# Altium footprint library 12-Filters FB.PcbLib: 64 footprints (part 1 of 4)
Each footprint in its own frame and in the unit in brackets; x right, y up, seen from the top. Pads: shape width x height; smd on the part's side, far side on the other; paste and mask are expansions set on the pad; w line width, h text height; cw(c..) or ccw(c..) is an arc to the next point about the centre after c.
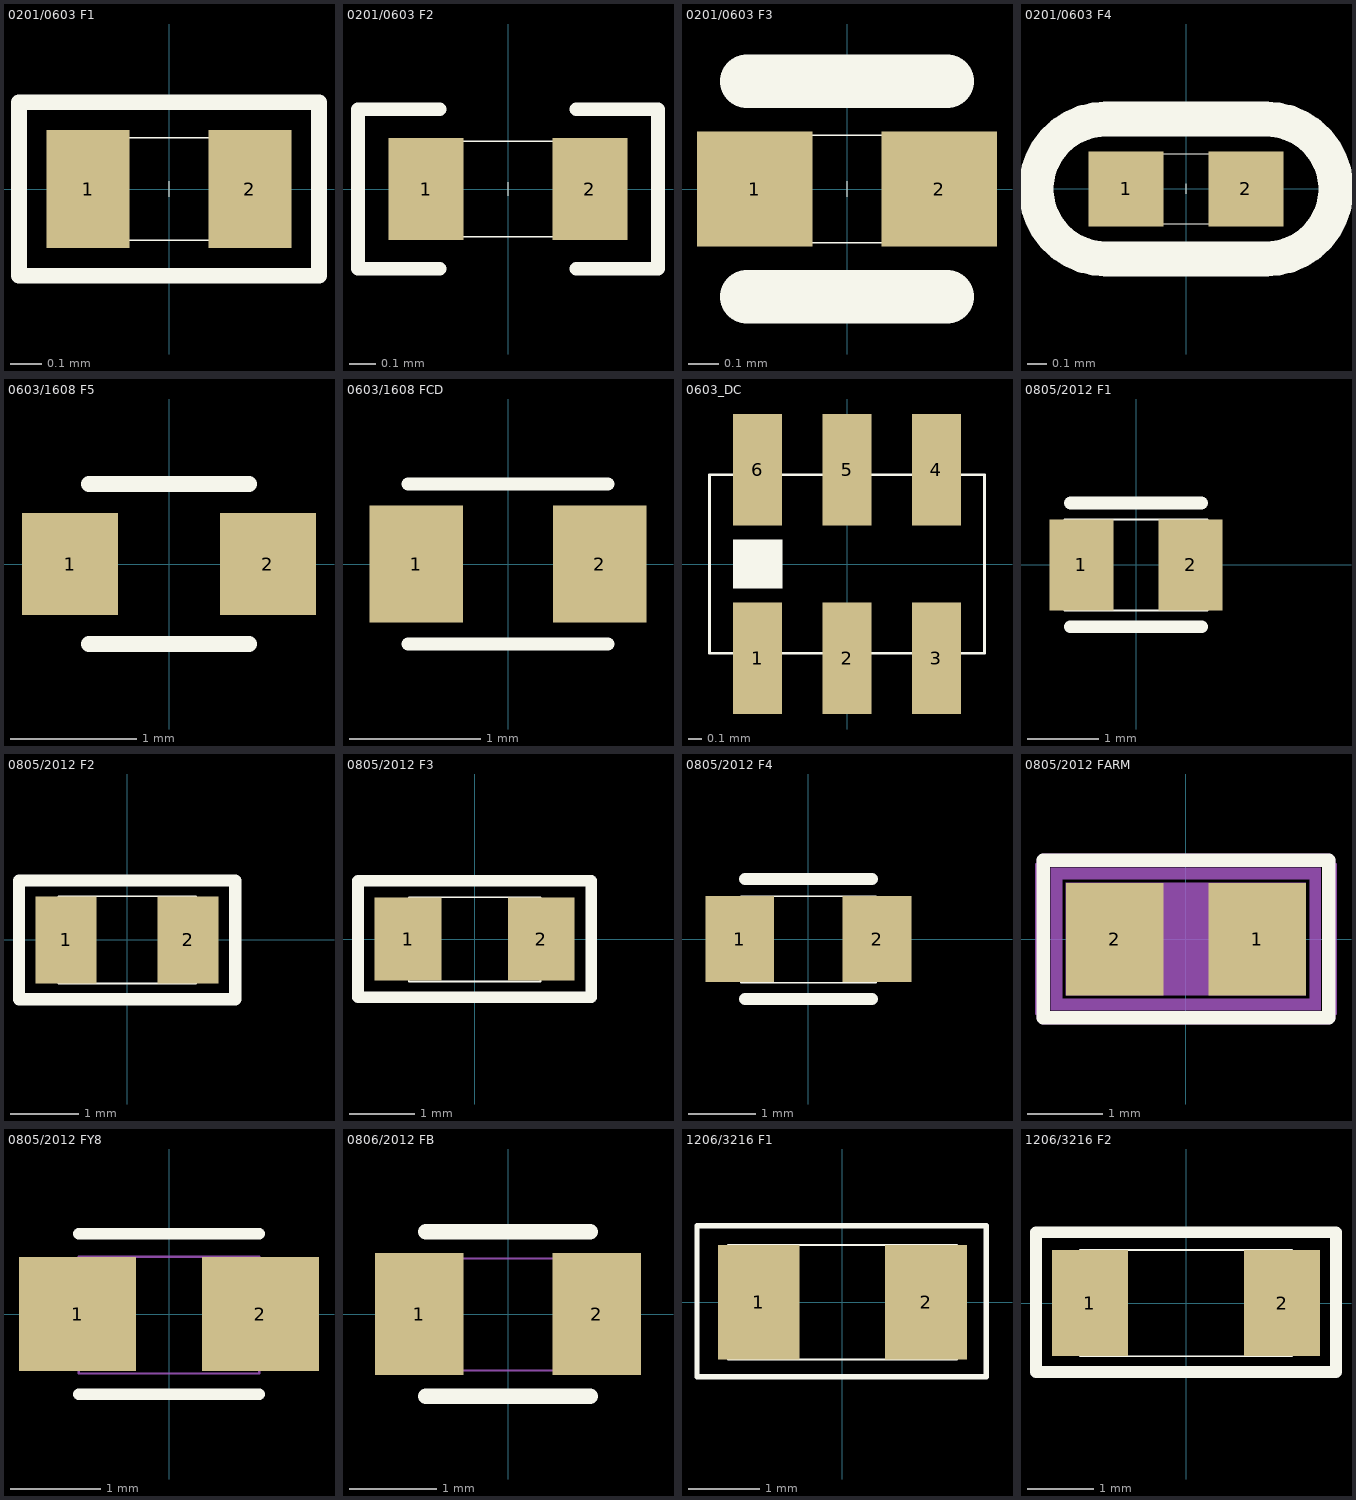
[diagram p0: the footprints below, top view; thin cyan lines are the x and y axes]

## 0201/0603 F1 [mil]
height 360.24
pads (2):
  rect 10.5x15 smd mask+2.76: 1(-10.24,0)
  rect 10.5x15 smd mask+2: 2(10.24,0)
Top Overlay:
  lines w0.1: 0,-1 0,1 0,-1
  lines w0.2: -13,-6.5 -13,6.5 13,6.5 13,-6.5 -13,-6.5
  lines w2: -19,-11 -19,11 19,11 19,-11 -19,-11
3D body "0201-vr.stp": height 11.81, standoff 0, extent -11.62,-6 12,5.81
3D body "0_381-0_267-0201.stp": height 0.79, standoff 0, extent -15.5,-7.5 -4.99,7.5
3D body "0_381-0_267-0201.stp": height 0.79, standoff 0, extent 5,-7.5 15.51,7.5

## 0201/0603 F2 [mil]
height 360.24
pads (2):
  rect 11x15 smd mask+2.76: 1(-12,0)
  rect 11x15 smd mask+2: 2(12,0)
Top Overlay:
  lines w0.1: 0,-1 0,1
  lines w0.2: -13,-7 -13,7 13,7 13,-7 -13,-7
  lines w2: -10,-11.7 -22,-11.7 -22,11.7 -10,11.7 ; 10,-11.7 22,-11.7 22,11.7 10,11.7
3D body "0_381-0_267-0201.stp": height 0.79, standoff 0, extent 7,-7.5 17.51,7.5
3D body "0_381-0_267-0201.stp": height 0.79, standoff 0, extent -17.5,-7.5 -6.99,7.5
3D body "0201-vr.stp": height 11.81, standoff 0, extent -11.62,-6 12,5.81

## 0201/0603 F3 [mil]
height 360.24
pads (2):
  rect 15x15 smd mask+2: 1(-12,0)
  rect 15x15 smd mask+2.76: 2(12,0)
Top Overlay:
  lines w0.1: 0,-1 0,1
  lines w0.2: -13,-7 -13,7 13,7 13,-7 -13,-7
  lines w7: -13,-14 13,-14 ; -13,14 13,14
3D body "0201-vr.stp": height 11.81, standoff 0, extent -11.63,-6 12,5.81
3D body "0_381-0_381-0201a.stp": height 0.79, standoff 0, extent -19.5,-7.5 -4.5,7.5
3D body "0_381-0_381-0201a.stp": height 0.79, standoff 0, extent 4.5,-7.5 19.5,7.5

## 0201/0603 F4 [mil]
height 360.24
pads (2):
  rect 15x15 smd mask+2: 1(-12,0)
  rect 15x15 smd mask+2.76: 2(12,0)
Top Overlay:
  lines w0.1: 0,-1 0,1
  lines w0.2: -13,-7 -13,7 13,7 13,-7 -13,-7
  lines w7: -16,-14 16,-14 ; -16,14 16,14
  lines w7.01: -16,-14.03 cw(c-16,-0.02) -16,14 ; 16,-14.03 ccw(c16,-0.02) 16,14
3D body "0201-vr.stp": height 11.81, standoff 0, extent -11.63,-6 12,5.81
3D body "0_381-0_381-0201a.stp": height 0.79, standoff 0, extent -19.5,-7.5 -4.5,7.5
3D body "0_381-0_381-0201a.stp": height 0.79, standoff 0, extent 4.5,-7.5 19.5,7.5

## 0603/1608 F5 [mil]
height 360.24
pads (2):
  rect 30x32 smd: 1(-31,0) 2(31,0)
Top Overlay:
  lines w5: -25,-25 25,-25 ; -25,25 25,25
Bottom Overlay:
3D body "0603-vrt.stp": height 31.5, standoff 0, extent -31.49,-16 31.5,15.5
3D body "0_8128-0_762-0603.stp": height 0.79, standoff 0, extent 16,-16 46,16
3D body "0_8128-0_762-0603.stp": height 0.79, standoff 0, extent -46,-16 -16,16

## 0603/1608 FCD [mil]
height 360.24
pads (2):
  rect 28x35 smd mask+2.76: 1(-27.56,0)
  rect 28x35 smd mask+2: 2(27.56,0)
Top Overlay:
  lines w3.94: -30,-24 30,-24 ; -30,24 30,24
3D body "0603-vrt.stp": height 31.5, standoff 0, extent -31.49,-16 31.5,15.5
3D body "0_8128-0_762-0603.stp": height 0.79, standoff 0, extent 11.5,-16 41.5,16
3D body "0_8128-0_762-0603.stp": height 0.79, standoff 0, extent -42,-16 -12,16

## 0603_DC [mil]
height 360.24
pads (6):
  rect 14x32 smd mask+2: 1(-25.59,-26.97) 2(0,-26.97) 3(25.59,-26.97) 4(25.59,26.97) 5(0,26.97) 6(-25.59,26.97)
Top Overlay:
  rectangle: -32.68,-7.09 -18.5,7.09
  lines w0.79: -39.37,-25.59 39.37,-25.59 39.37,25.59 -39.37,25.59 -39.37,-25.59

## 0805/2012 F1 [mil]
height 360.24
pads (2):
  rect 35x50 smd mask+4: 1(-30,0) 2(30,0)
Top Overlay:
  lines w1: -39.5,-25 39.5,-25 39.5,25 -39.5,25 -39.5,-25
  lines w7: -36,-34 36,-34 ; -36,34 36,34
3D body "0805-vrt.stp": height 39.37, standoff 0, extent -39.37,-19.37 39.37,20
3D body "0805_1016_127.stp": height 0.39, standoff 0, extent -47.5,-25 -7.5,25
3D body "0805_1016_127.stp": height 0.39, standoff 0, extent 7.5,-25 47.5,25

## 0805/2012 F2 [mil]
height 360.24
pads (2):
  rect 35x50 smd: 1(-35,0)
  rect 35x50 smd mask+2.76: 2(35,0)
Top Overlay:
  lines w1: -39.5,-25 -39.5,25 39.5,25 39.5,-25 -39.5,-25
  lines w7: -62,-34 -62,34 62,34 62,-34 1,-34 -62,-34
3D body "0805_1016_127.stp": height 0.39, standoff 0, extent 12.5,-25 52.5,25
3D body "0805_1016_127.stp": height 0.39, standoff 0, extent -53,-25 -13,25
3D body "0805-vrt.stp": height 39.37, standoff 0, extent -39.37,-19.37 39.37,20

## 0805/2012 F3 [mil]
height 360.24
pads (2):
  rect 40x50 smd mask+2.76: 1(-40,0)
  rect 40x50 smd: 2(40,0)
Top Overlay:
  lines w1: -39.5,-25.5 -39.5,25 39.5,25 39.5,-25.5 -39.5,-25.5
  lines w7: -70,-35 0,-35 70,-35 70,35 -70,35 -70,-35
3D body "0805_1016_127.stp": height 0.39, standoff 0, extent 20,-25 60,25
3D body "0805_1016_127.stp": height 0.39, standoff 0, extent -60,-25 -20,25
3D body "0805-vrt.stp": height 39.37, standoff 0, extent -39.37,-19.37 39.37,20

## 0805/2012 F4 [mil]
height 360.24
pads (2):
  rect 40x50 smd mask+2.76: 1(-40,0)
  rect 40x50 smd: 2(40,0)
Top Overlay:
  lines w1: -39.5,-25.5 39.5,-25.5 39.5,25 -39.5,25 -39.5,-25.5
  lines w7: -37.01,-35 37.01,-35 ; -37,35 37,35
3D body "0805-vrt.stp": height 39.37, standoff 0, extent -39.37,-19.37 39.37,20
3D body "0805_1016_127.stp": height 0.39, standoff 0, extent -60,-25 -20,25
3D body "0805_1016_127.stp": height 0.39, standoff 0, extent 20,-25 60,25

## 0805/2012 FARM [mm]
height 9.15
pads (2):
  rect 1.3x1.5 smd: 1(0.95,0) 2(-0.95,0)
Top Overlay:
  lines w0.18: -1.9,-1.05 1.9,-1.05 1.9,1.05 -1.9,1.05 -1.9,-1.05
Mechanical 7:
  lines w0.18: -1.9,-1.05 1.9,-1.05 1.9,1.05 -1.9,1.05 -1.9,-1.05
Mechanical 16:
  pour cut-out: 0.306,0 0.283,-0.117 0.216,-0.216 0.117,-0.283 0,-0.306 -0.117,-0.283 -0.216,-0.216 -0.283,-0.117 -0.306,0 -0.283,0.117 -0.216,0.216 -0.117,0.283 0,0.306 0.117,0.283 0.216,0.216 0.283,0.117
  region: 1.6,-0.75 -1.6,-0.75 -1.6,0.75 1.6,0.75
  region: 1.8,0 1.65,0 1.65,-0.8 -1.65,-0.8 -1.65,0 -1.8,0 -1.8,-0.95 1.8,-0.95
  region: -1.8,0 -1.65,0 -1.65,0.8 1.65,0.8 1.65,0 1.8,0 1.8,0.95 -1.8,0.95
  lines w0.025: -2,-1 -2,1 2,1 2,-1 -2,-1 ; -1.1,-0.725 1.1,-0.725 1.1,0.725 -1.1,0.725 -1.1,-0.725
Mechanical 18:
  text "1" at 0.75,0 h0.5
  text "2" at -1.15,0 h0.5
3D body "0805-arm.stp": height 0, standoff 0, extent -1.6,-0.75 -0.3,0.75
3D body "0805-arm.stp": height 0, standoff 0, extent 0.3,-0.75 1.6,0.75
3D body "0805-vrt.stp": height 1, standoff 0, extent -1,-0.5 1,0.5

## 0805/2012 FY8 [mm]
height 9.15
pads (2):
  rect 1.3x1.27 smd: 1(-1.016,0)
  rect 1.3x1.27 smd mask+0.07: 2(1.016,0)
Top Overlay:
  lines w0.127: -1,-0.889 1,-0.889 ; -1,0.889 1,0.889
Mechanical 15:
  lines w0.025: -1.003,-0.66 1.003,-0.66 1.003,0.635 -1.003,0.635 -1.003,-0.66
3D body "0805-vrt.stp": height 1, standoff 0, extent -1,-0.492 1,0.508
3D body "0805_1016_127.stp": height 0.01, standoff 0, extent -1.676,-0.635 -0.66,0.635
3D body "0805_1016_127.stp": height 0.01, standoff 0, extent 0.635,-0.635 1.651,0.635

## 0806/2012 FB [mil]
height 360.24
pads (2):
  rect 40x55.12 smd mask+2.76: 1(-40,0)
  rect 40x55.12 smd: 2(40,0)
Top Overlay:
  lines w7: -37.02,-37 37,-37 ; -37,37 37,37
Mechanical 15:
  lines w1: -39.5,-25.5 39.5,-25.5 39.5,25 -39.5,25 -39.5,-25.5
3D body "0805_1016_127.stp": height 0.39, standoff 0, extent 20,-25 60,25
3D body "0805_1016_127.stp": height 0.39, standoff 0, extent -60,-25 -20,25
3D body "0805-vrt.stp": height 39.37, standoff 0, extent -39.37,-19.37 39.37,20

## 1206/3216 F1 [mil]
height 360.24
pads (2):
  rect 45x63 smd mask+2.76: 1(-46,0)
  rect 45x63 smd: 2(46,0)
Top Overlay:
  lines w1: -63,-31.5 63,-31.5 63,31.5 -63,31.5 -63,-31.5
  lines w3: -80,-41 -80,42 79,42 79,-41 -80,-41
3D body "1206-vrt.stp": height 62.99, standoff 0, extent -63,-31.5 62.98,31.49
3D body "1_6-1_143-1206.stp": height 0.79, standoff 0, extent -68.5,-31.49 -23.5,31.5
3D body "1_6-1_143-1206.stp": height 0.79, standoff 0, extent 23.5,-31.49 68.5,31.5

## 1206/3216 F2 [mil]
height 360.24
pads (2):
  rect 45x63 smd: 1(-57,0)
  rect 45x63 smd mask+2.76: 2(57,0)
Top Overlay:
  lines w1: -63,-31.5 63,-31.5 63,31.5 -63,31.5 -63,-31.5
  lines w7: -89,-41 89,-41 89,42 -89,42 -89,-41
3D body "1_6-1_143-1206.stp": height 0.79, standoff 0, extent 34.51,-31.49 79.5,31.5
3D body "1_6-1_143-1206.stp": height 0.79, standoff 0, extent -79.5,-31.49 -34.5,31.5
3D body "1206-vrt.stp": height 62.99, standoff 0, extent -63,-31.5 62.98,31.49